# EAGLE library part CONN-1X6 (library G1Tech-Connectors)
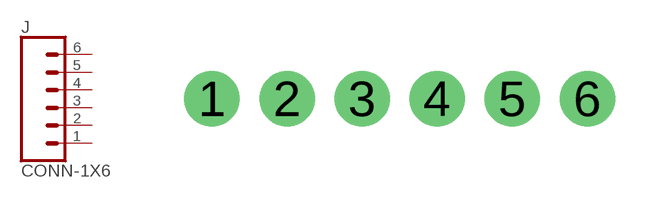
[diagram p0: symbol with the pads of 1X06_NO_SILK; footprint 1X06_NO_SILK]

Designator prefix J

## CONN-1X6  [1X06_NO_SILK]
1  1  pas
2  2  pas
3  3  pas
4  4  pas
5  5  pas
6  6  pas

## Footprint 1X06_NO_SILK (pad centres in mm)
drill 1.016 pad 1.88: 1 0,0; 2 2.54,0; 3 5.08,0; 4 7.62,0; 5 10.16,0; 6 12.7,0